# Altium schematic symbol library ENERGY Micro.SchLib: 1 symbol
Pins are listed as number, name and electrical type; pins without a type are passive.

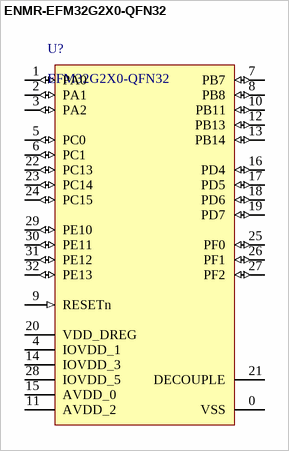
[diagram p0: symbol ENMR-EFM32G2X0-QFN32]

## ENMR-EFM32G2X0-QFN32
designator U?, comment EFM32G2X0-QFN32
Price: *; Catalog: *; Catalog number: *; Value: EFM32G2X0-QFN32
footprint QFN_32_0.65p_TP (QFN, 32-Leads, Body 7x7mm, Pitch 0.65mm, Thermal Pad 4.9x4.9mm, IPC Low Density)
pins: 0 VSS (power) "Ground", 1 PA0 (io) "TIM0_CC0#0/1, I2C0_SDA#0", 2 PA1 (io) "TIM0_CC1#0/1, I2C0_SCL#0, CMU_CLK1#0", 3 PA2 (io) "TIM0_CC2#0/1, CMU_CLK0#0", 4 IOVDD_1 (power) "Digital IO power supply 1.", 5 PC0 (io) "ACMP0_CH0, PCNT0_S0IN#2, US1_TX#0", 6 PC1 (io) "ACMP0_CH1, PCNT0_S1IN#2, US1_RX#0", 7 PB7 (io) "LFXTAL_P, US1_CLK#0", 8 PB8 (io) "LFXTAL_N, US1_CS#0", 9 RESETn (in) "Reset input. Active low, with internal pull-up.", 10 PB11 (io) "DAC0_OUT0, LETIM0_OUT0#1", 11 AVDD_2 (power) "Analog power supply 2 .", 12 PB13 (io) "HFXTAL_P, LEU0_TX#1", 13 PB14 (io) "HFXTAL_N, LEU0_RX#1", 14 IOVDD_3 (power) "Digital IO power supply 3.", 15 AVDD_0 (power) "Analog power supply 0.", 16 PD4 (io) "ADC0_CH4, LEU0_TX#0", 17 PD5 (io) "ADC0_CH5, LEU0_RX#0", 18 PD6 (io) "ADC0_CH6, LETIM0_OUT0#0, I2C0_SDA#1", 19 PD7 (io) "ADC0_CH7, LETIM0_OUT1#0, I2C0_SCL#1", 20 VDD_DREG (power) "Power supply for on-chip voltage regulator.", 21 DECOUPLE "Decouple output for on-chip voltage regulator. An external capacitance of size CDECOUPLE is required at this pin.", 22 PC13 (io) "ACMP1_CH5, TIM0_CDTI0#1/3, TIM1_CC0#0, PCNT0_S0IN#0", 23 PC14 (io) "ACMP1_CH6, TIM0_CDTI1#1/3, TIM1_CC1#0, PCNT0_S1IN#0", 24 PC15 (io) "ACMP1_CH7, TIM0_CDTI2#1/3, TIM1_CC2#0, DBG_SWO#1", 25 PF0 (io) "LETIM0_OUT0#2, DBG_SWCLK#0/1", 26 PF1 (io) "LETIM0_OUT1#2, DBG_SWDIO#0/1", 27 PF2 (io) "ACMP1_O#0, DBG_SWO#0", 28 IOVDD_5 (power) "Digital IO power supply 5.", 29 PE10 (io) "TIM1_CC0#1, US0_TX#0", 30 PE11 (io) "TIM1_CC1#1, US0_RX#0", 31 PE12 (io) "TIM1_CC2#1, US0_CLK#0", 32 PE13 (io) "US0_CS#0, ACMP0_O#0"